# Altium footprint library STB30NM60ND.PcbLib: 1 footprints
Each footprint in its own frame and in the unit in brackets; x right, y up, seen from the top. Pads: shape width x height; smd on the part's side, far side on the other; paste and mask are expansions set on the pad; w line width, h text height; cw(c..) or ccw(c..) is an arc to the next point about the centre after c.
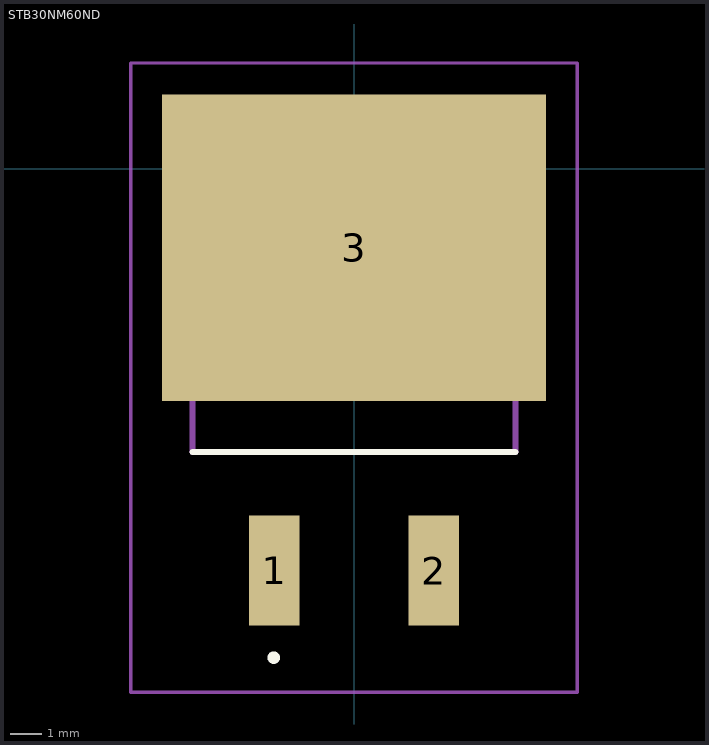
[diagram p0: the footprint, top view; thin cyan lines are the x and y axes]

## STB30NM60ND [mm]
pads (3):
  rect 1.6x3.5 smd: 1(-2.54,-12.775) 2(2.54,-12.775)
  rect 12.2x9.75 smd: 3(0,-2.5)
Top Overlay:
  lines w0.198: -2.652,-15.542 -2.652,-15.542 ; -2.652,-15.542 ccw(c-2.553,-15.542) -2.454,-15.542 ; -2.652,-15.542 cw(c-2.553,-15.542) -2.454,-15.542 ; -2.454,-15.542 -2.454,-15.542
  lines w0.2: -5.138,-9 5.138,-9
Mechanical 15:
  lines w0.2: -5.138,-9 5.138,-9 5.138,0 -5.138,0 -5.138,-9
Mechanical 20:
  lines w0.1: -7.1,-16.641 7.1,-16.641 7.1,3.375 -7.1,3.375 -7.1,-16.641